# Altium schematic symbol library Support.SchLib: 1 symbol
Pins are listed as number, name and electrical type; pins without a type are passive.

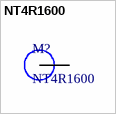
[diagram p0: symbol NT4R1600]

## NT4R1600
designator M?
Mini-PCIE Standoff; Full Part Number: NT4R1600
footprint NT4R1600
pins: 1